# Altium footprint library Air780E.PcbLib: 40 footprints (part 3 of 3)
Each footprint in its own frame and in the unit in brackets; x right, y up, seen from the top. Pads: shape width x height; smd on the part's side, far side on the other; paste and mask are expansions set on the pad; w line width, h text height; cw(c..) or ccw(c..) is an arc to the next point about the centre after c.
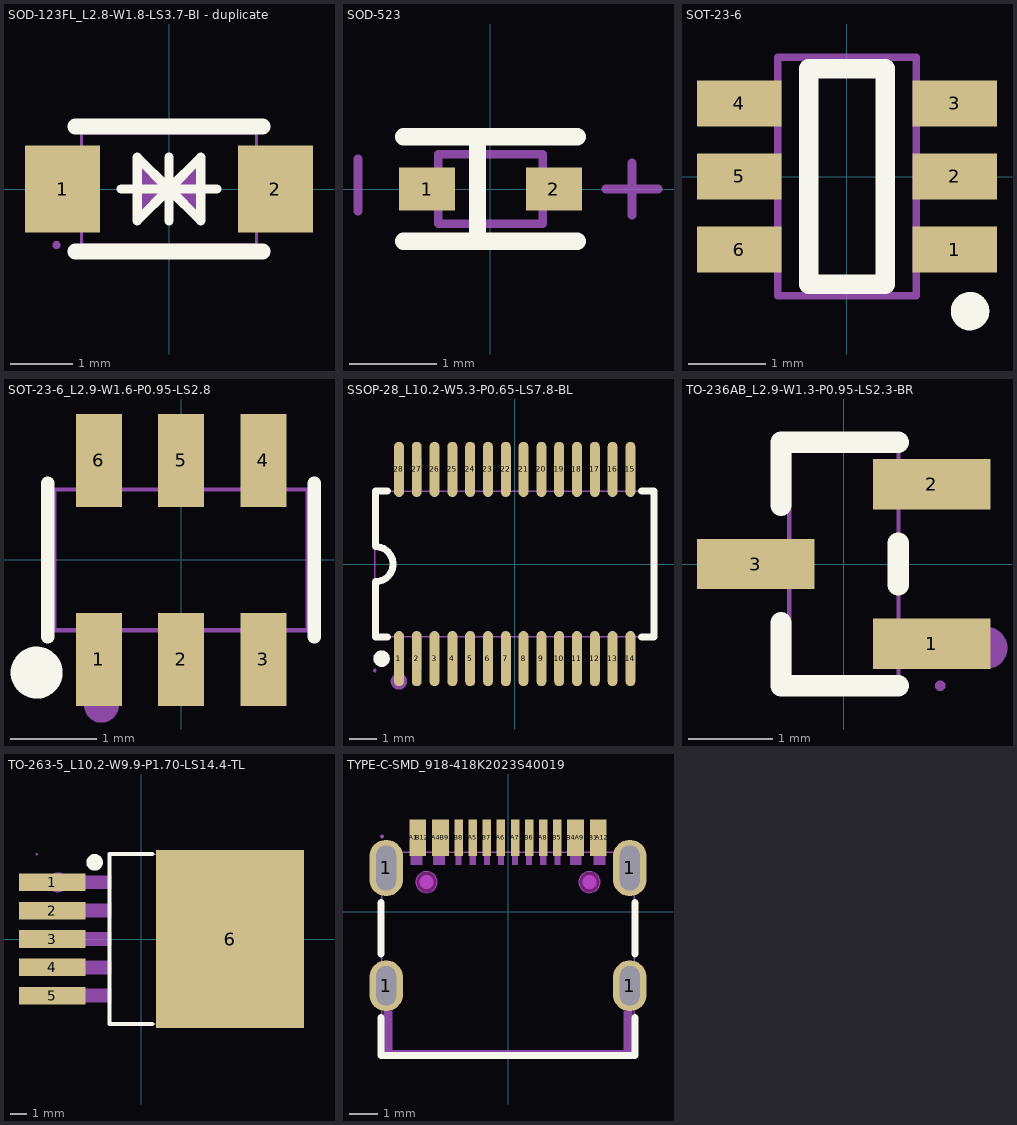
[diagram p2: the footprints below, top view; thin cyan lines are the x and y axes]

## SOD-123FL_L2.8-W1.8-LS3.7-BI - duplicate [mm]
height 1.25
pads (2):
  rect 1.2x1.4 smd paste+0 mask+0.051: 1(-1.7,0) 2(1.7,0)
Top Overlay:
  lines w0.15: -0.762,0 0.762,0 ; 0,-0.508 0,0.508 ; 0,-0.254 0,0.254 ; 0,0 0.508,0.508 0.508,-0.508 0,0 ; 0,0 -0.508,-0.508 -0.508,0.508 0,0
  lines w0.254: -1.5,-1 1.5,-1 ; -1.5,1 1.5,1
Mechanical 6:
  region: -0.5,0.5 -0.5,-0.5 0,0
  region: 0.5,-0.5 0.5,0.5 0,0
Mechanical 15:
  region: -1.74,-0.9 -1.74,-0.875 -1.775,-0.84 -1.825,-0.84 -1.86,-0.875 -1.86,-0.9 -1.86,-0.925 -1.825,-0.96 -1.775,-0.96 -1.74,-0.925
  region: -1.8,0.5 -1.275,0.5 -1.275,-0.5 -1.8,-0.5
  region: 1.275,0.5 1.8,0.5 1.8,-0.5 1.275,-0.5
  lines w0.051: -1.4,-0.9 1.4,-0.9 1.4,0.9 -1.4,0.9 -1.4,-0.9

## SOD-523 [mm]
pads (2):
  rect 0.64x0.5 smd: 1(-0.73,0) 2(0.73,0)
Top Overlay:
  lines w0.2: -1,-0.6 1,-0.6 ; -1,0.6 1,0.6 ; -0.15,-0.575 -0.15,0.6
Mechanical 13:
  lines w0.1: -0.6,-0.4 -0.6,0.4 0.6,0.4 0.6,-0.4 -0.6,-0.4
Mechanical 15:
  lines w0.1: -1.524,-0.254 -1.524,0.346 ; 1.327,0 1.927,0 ; 1.627,-0.3 1.627,0.3
3D body "SOD523.STEP": height 0.7, standoff 0, extent -0.8,-0.399 0.8,0.399

## SOT-23-6 [mm]
pads (6):
  rect 1.1x0.6 smd: 1(1.4,-0.95) 2(1.4,0) 3(1.4,0.95) 4(-1.4,0.95) 5(-1.4,0) 6(-1.4,-0.95)
Top Overlay:
  circle w0.25: c1.6,-1.75 r0.125
  lines w0.254: -0.5,-1.4 -0.5,1.4 0.5,1.4 0.5,-1.4 -0.5,-1.4
Mechanical 13:
  lines w0.1: -0.9,-1.55 -0.9,1.55 0.9,1.55 0.9,-1.55 -0.9,-1.55

## SOT-23-6_L2.9-W1.6-P0.95-LS2.8 [mil]
pads (6):
  rect 20.95x42.2 smd paste+0 mask+2: 1(-37.4,-45.24) 2(0,-45.24) 3(37.4,-45.24) 4(37.4,45.24) 5(0,45.24) 6(-37.4,45.24)
Top Overlay:
  circle w11.81: c-65.68,-51.24 r5.91
  lines w6: -60.6,-35.01 -60.6,35.01 ; 60.6,-35.01 60.6,35.01
Mechanical 6:
  circle w7.87: c-36.22,-66.14 r3.94
Mechanical 15:
  region: -55.24,-55.12 -55.24,-54.14 -56.62,-52.76 -58.58,-52.76 -59.96,-54.14 -59.96,-55.12 -59.96,-56.1 -58.58,-57.48 -56.62,-57.48 -55.24,-56.1
  region: -45.87,-36.42 -28.94,-36.42 -28.94,-55.12 -45.87,-55.12
  region: -45.87,-31.61 -28.94,-31.61 -28.94,-36.81 -45.87,-36.81
  region: -8.46,-36.42 8.46,-36.42 8.46,-55.12 -8.46,-55.12
  region: -8.46,-31.61 8.46,-31.61 8.46,-36.81 -8.46,-36.81
  region: 28.94,-36.42 45.87,-36.42 45.87,-55.12 28.94,-55.12
  region: 28.94,-31.61 45.87,-31.61 45.87,-36.81 28.94,-36.81
  region: 28.94,36.42 45.87,36.42 45.87,55.12 28.94,55.12
  region: 28.94,36.81 45.87,36.81 45.87,31.61 28.94,31.61
  region: -8.46,36.42 8.46,36.42 8.46,55.12 -8.46,55.12
  region: -8.46,36.81 8.46,36.81 8.46,31.61 -8.46,31.61
  region: -45.87,36.42 -28.94,36.42 -28.94,55.12 -45.87,55.12
  region: -45.87,36.81 -28.94,36.81 -28.94,31.61 -45.87,31.61
  lines w2: -57.6,-32.01 57.6,-32.01 57.6,32.01 -57.6,32.01 -57.6,-32.01

## SSOP-28_L10.2-W5.3-P0.65-LS7.8-BL [mil]
pads (28):
  oval 14.33x79.35 smd paste+0 mask+2: 1(-166.34,-136.03) 2(-140.75,-136.03) 3(-115.16,-136.03) 4(-89.57,-136.03) 5(-63.98,-136.03) 6(-38.39,-136.03) 7(-12.79,-136.03) 8(12.8,-136.03) 9(38.39,-136.03) 10(63.98,-136.03) 11(89.57,-136.03) 12(115.16,-136.03) 13(140.75,-136.03) 14(166.34,-136.03) 15(166.34,136.03) 16(140.75,136.03) 17(115.16,136.03) 18(89.57,136.03) 19(63.98,136.03) 20(38.39,136.03) 21(12.8,136.03) 22(-12.79,136.03) 23(-38.39,136.03) 24(-63.98,136.03) 25(-89.57,136.03) 26(-115.16,136.03) 27(-140.75,136.03) 28(-166.34,136.03)
Top Overlay:
  circle w11.81: c-191.31,-136.03 r5.91
  lines w10: -182.6,-105 -200,-105 -200,-25.35 ccw(c-200,-0.18) -200,25 -200,105 -182.6,105 ; 182.61,-105 200,-105 200,105 182.61,105
Mechanical 6:
  circle w11.81: c-166.34,-168.7 r5.91
Mechanical 15:
  drawing of 61 lines, arcs and shapes, not listed

## TO-236AB_L2.9-W1.3-P0.95-LS2.3-BR [mm]
pads (3):
  rect 1.4x0.6 smd paste+0 mask+0.051: 1(1.05,-0.95) 2(1.05,0.95) 3(-1.05,0)
Top Overlay:
  lines w0.254: -0.75,-0.7 -0.75,-1.45 0.65,-1.45 ; -0.75,0.7 -0.75,1.45 0.65,1.45 ; 0.65,-0.25 0.65,0.25
Mechanical 6:
  circle w0.25: c1.7,-1 r0.125
Mechanical 15:
  region: 0.85,0.735 0.85,1.165 1.15,1.165 1.15,0.735
  region: 0.64,0.735 0.64,1.165 0.86,1.165 0.86,0.735
  region: 0.85,-1.165 0.85,-0.735 1.15,-0.735 1.15,-1.165
  region: 0.64,-1.165 0.64,-0.735 0.86,-0.735 0.86,-1.165
  region: -1.15,-0.215 -1.15,0.215 -0.85,0.215 -0.85,-0.215
  region: -0.86,-0.215 -0.86,0.215 -0.64,0.215 -0.64,-0.215
  region: 1.21,-1.45 1.21,-1.425 1.175,-1.39 1.125,-1.39 1.09,-1.425 1.09,-1.45 1.09,-1.475 1.125,-1.51 1.175,-1.51 1.21,-1.475
  lines w0.051: -0.65,-1.45 -0.65,1.45 0.65,1.45 0.65,-1.45 -0.65,-1.45

## TO-263-5_L10.2-W9.9-P1.70-LS14.4-TL [mil]
pads (6):
  rect 157.48x42.1 smd paste+0 mask+2: 1(-210,133.84) 2(-210,66.92) 3(-210,0) 4(-210,-66.92) 5(-210,-133.84)
  rect 350x419.68 smd paste+0 mask+2: 6(210,0)
Top Overlay:
  circle w19.68: c-110.24,181.1 r9.84
  lines w10: 25.89,-200.79 -74.81,-200.79 -74.81,200.79 23.62,200.79 25.89,200.79
Mechanical 6:
  circle w23.62: c-196.85,133.86 r11.81
Mechanical 15:
  region: -171.85,-118.08 -70.47,-118.08 -70.47,-149.57 -171.85,-149.57
  region: -171.85,-51.24 -70.47,-51.24 -70.47,-82.73 -171.85,-82.73
  region: -171.85,15.76 -70.47,15.76 -70.47,-15.73 -171.85,-15.73
  region: -171.85,82.76 -70.47,82.76 -70.47,51.27 -171.85,51.27
  region: -171.85,149.76 -70.47,149.76 -70.47,118.27 -171.85,118.27
  region: 68.27,-200 68.27,200 318.27,200 318.27,-200
  region: -246.81,-118.09 -168.86,-118.09 -168.86,-149.59 -246.81,-149.59
  region: -246.81,-51.25 -168.86,-51.25 -168.86,-82.75 -246.81,-82.75
  region: -246.81,82.67 -168.86,82.67 -168.86,51.17 -246.81,51.17
  region: -246.81,15.75 -168.86,15.75 -168.86,-15.75 -246.81,-15.75
  region: -246.81,149.67 -168.86,149.67 -168.86,118.17 -246.81,118.17
  region: -244.45,200 -244.45,200.98 -245.83,202.36 -247.79,202.36 -249.17,200.98 -249.17,200 -249.17,199.02 -247.79,197.64 -245.83,197.64 -244.45,199.02
  lines w2: -71.89,-200 268.27,-200 268.27,200 -71.89,200 -71.89,-200

## TYPE-C-SMD_918-418K2023S40019 [mm]
pads (20):
  oval 1.2x1.8 hole 0.7 slot 1.4 at 90 deg mask+0.051: 1(-4.32,-2.624) 1(4.32,-2.624)
  oval 1.2x2 hole 0.7 slot 1.6 at 90 deg mask+0.051: 1(-4.32,1.556) 1(4.32,1.556)
  rect 0.3x1.3 smd mask+0.051: A1(-3.35,2.623) A4(-2.55,2.623) A5(-1.25,2.623) A6(-0.25,2.623) A7(0.25,2.623) A8(1.25,2.624) A9(2.55,2.623) A12(3.35,2.623) B1(3.05,2.623) B4(2.25,2.623) B5(1.75,2.623) B6(0.75,2.623) B7(-0.75,2.623) B8(-1.75,2.624) B9(-2.25,2.623) B12(-3.05,2.623)
Top Overlay:
  lines w0.254: -4.5,-3.755 -4.5,-5.091 4.5,-5.091 ; -4.5,-1.493 -4.5,0.325 ; 4.5,-5.04 4.5,-3.755 ; 4.5,-1.493 4.5,0.325
Top Paste:
  region: -4.92,1.956 -4.92,2.075 -4.829,2.296 -4.66,2.465 -4.439,2.556 -4.201,2.556 -3.98,2.465 -3.811,2.296 -3.72,2.075 -3.72,1.956 -3.72,1.156 -3.72,1.037 -3.811,0.816 -3.98,0.647 -4.201,0.556 -4.439,0.556 -4.66,0.647 -4.829,0.816 -4.92,1.037 -4.92,1.156
  region: 3.72,1.956 3.72,2.075 3.811,2.296 3.98,2.465 4.201,2.556 4.439,2.556 4.66,2.465 4.829,2.296 4.92,2.075 4.92,1.956 4.92,1.156 4.92,1.037 4.829,0.816 4.66,0.647 4.439,0.556 4.201,0.556 3.98,0.647 3.811,0.816 3.72,1.037 3.72,1.156
  region: 3.72,-2.324 3.72,-2.205 3.811,-1.984 3.98,-1.816 4.201,-1.724 4.439,-1.724 4.66,-1.816 4.829,-1.984 4.92,-2.205 4.92,-2.324 4.92,-2.924 4.92,-3.044 4.829,-3.264 4.66,-3.433 4.439,-3.524 4.201,-3.524 3.98,-3.433 3.811,-3.264 3.72,-3.044 3.72,-2.924
  region: -4.92,-2.324 -4.92,-2.205 -4.829,-1.984 -4.66,-1.816 -4.439,-1.724 -4.201,-1.724 -3.98,-1.816 -3.811,-1.984 -3.72,-2.205 -3.72,-2.324 -3.72,-2.924 -3.72,-3.044 -3.811,-3.264 -3.98,-3.433 -4.201,-3.524 -4.439,-3.524 -4.66,-3.433 -4.829,-3.264 -4.92,-3.044 -4.92,-2.924
  region: -3.5,3.273 -2.9,3.273 -2.9,1.973 -3.5,1.973
  region: -2.7,3.273 -2.1,3.273 -2.1,1.973 -2.7,1.973
  region: 2.9,3.273 3.5,3.273 3.5,1.973 2.9,1.973
  region: 2.1,3.274 2.7,3.274 2.7,1.974 2.1,1.974
  region: 1.6,3.273 1.9,3.273 1.9,1.973 1.6,1.973
  region: 1.1,3.274 1.4,3.274 1.4,1.974 1.1,1.974
  region: 0.6,3.273 0.9,3.273 0.9,1.973 0.6,1.973
  region: 0.1,3.273 0.4,3.273 0.4,1.973 0.1,1.973
  region: -0.4,3.273 -0.1,3.273 -0.1,1.973 -0.4,1.973
  region: -0.9,3.273 -0.6,3.273 -0.6,1.973 -0.9,1.973
  region: -1.4,3.273 -1.1,3.273 -1.1,1.973 -1.4,1.973
  region: -1.9,3.274 -1.6,3.274 -1.6,1.974 -1.9,1.974
Keep-Out Layer:
  board cut-out: 3.265,1.056 3.265,1.13 3.208,1.268 3.102,1.374 2.965,1.431 2.815,1.431 2.678,1.374 2.572,1.268 2.515,1.13 2.515,1.056 2.515,0.981 2.572,0.843 2.678,0.738 2.815,0.681 2.965,0.681 3.102,0.738 3.208,0.843 3.265,0.981
  board cut-out: -2.515,1.056 -2.515,1.13 -2.572,1.268 -2.678,1.374 -2.815,1.431 -2.965,1.431 -3.102,1.374 -3.208,1.268 -3.265,1.13 -3.265,1.056 -3.265,0.981 -3.208,0.843 -3.102,0.738 -2.965,0.681 -2.815,0.681 -2.678,0.738 -2.572,0.843 -2.515,0.981
Mechanical 1:
  circle w0.005: c2.89,1.056 r0.375
  circle w0.005: c-2.89,1.056 r0.375
Mechanical 6:
  circle w0.25: c2.89,1.056 r0.125
  circle w0.25: c-2.89,1.056 r0.125
  region: -4.4,-3.5 -4.4,-5.2 4.4,-5.2 4.4,-3.5 4.1,-3.5 4.1,-4.9 -4.1,-4.9 -4.1,-3.5
Mechanical 15:
  region: -4.41,2.676 -4.41,2.701 -4.445,2.736 -4.495,2.736 -4.53,2.701 -4.53,2.676 -4.53,2.651 -4.495,2.616 -4.445,2.616 -4.41,2.651
  region: -4.47,2.106 -4.17,2.106 -4.17,1.006 -4.47,1.006
  region: 4.17,2.106 4.47,2.106 4.47,1.006 4.17,1.006
  region: -2.65,2.676 -2.45,2.676 -2.45,1.676 -2.65,1.676
  region: -2.45,2.676 -2.25,2.676 -2.25,1.676 -2.45,1.676
  region: 3.05,2.676 3.25,2.676 3.25,1.676 3.05,1.676
  region: 3.25,2.676 3.45,2.676 3.45,1.676 3.25,1.676
  region: -3.25,2.676 -3.05,2.676 -3.05,1.676 -3.25,1.676
  region: -3.45,2.676 -3.25,2.676 -3.25,1.676 -3.45,1.676
  region: 2.2,2.676 2.4,2.676 2.4,1.676 2.2,1.676
  region: 2.4,2.676 2.6,2.676 2.6,1.676 2.4,1.676
  region: -1.85,2.676 -1.65,2.676 -1.65,1.676 -1.85,1.676
  region: -1.35,2.676 -1.15,2.676 -1.15,1.676 -1.35,1.676
  region: -0.85,2.676 -0.65,2.676 -0.65,1.676 -0.85,1.676
  region: -0.35,2.676 -0.15,2.676 -0.15,1.676 -0.35,1.676
  region: 0.15,2.676 0.35,2.676 0.35,1.676 0.15,1.676
  region: 0.65,2.676 0.85,2.676 0.85,1.676 0.65,1.676
  region: 1.15,2.676 1.35,2.676 1.35,1.676 1.15,1.676
  region: 1.65,2.676 1.85,2.676 1.85,1.676 1.65,1.676
  region: -4.47,-2.224 -4.17,-2.224 -4.17,-3.024 -4.47,-3.024
  region: 4.17,-2.224 4.47,-2.224 4.47,-3.024 4.17,-3.024
  lines w0.051: -4.47,-5.174 4.47,-5.174 4.47,2.106 -4.47,2.106 -4.47,-5.174